# EAGLE library part LL1524 (library lundahl)
LL1524 Transformer
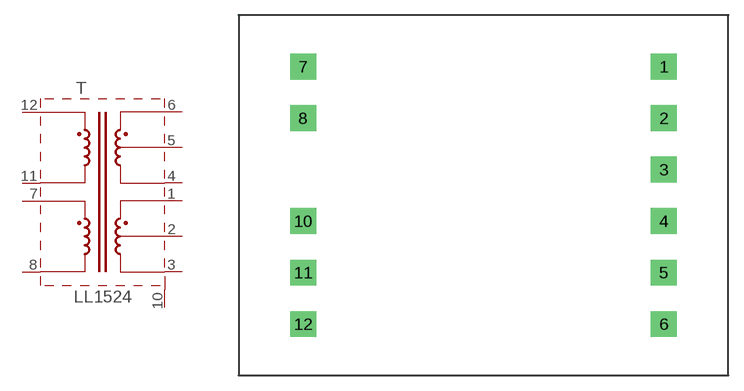
[diagram p13: symbol with the pads of LL1524; footprint LL1524]

Designator prefix T

## LL1524  [LL1524]
1  1  pas
2  2  pas
3  3  pas
4  4  pas
5  5  pas
6  6  pas
7  7  pas
8  8  pas
10  10  pas
11  11  pas
12  12  pas

## Footprint LL1524 (pad centres in mm)
LL1524
drill 1.27 pad 2.54 square: 1 17.78,12.7; 2 17.78,7.62; 3 17.78,2.54; 4 17.78,-2.54; 5 17.78,-7.62; 6 17.78,-12.7; 7 -17.78,12.7; 8 -17.78,7.62; 10 -17.78,-2.54; 11 -17.78,-7.62; 12 -17.78,-12.7